# Altium footprint library SOT封装.PcbLib: 36 footprints (part 3 of 3)
Each footprint in its own frame and in the unit in brackets; x right, y up, seen from the top. Pads: shape width x height; smd on the part's side, far side on the other; paste and mask are expansions set on the pad; w line width, h text height; cw(c..) or ccw(c..) is an arc to the next point about the centre after c.
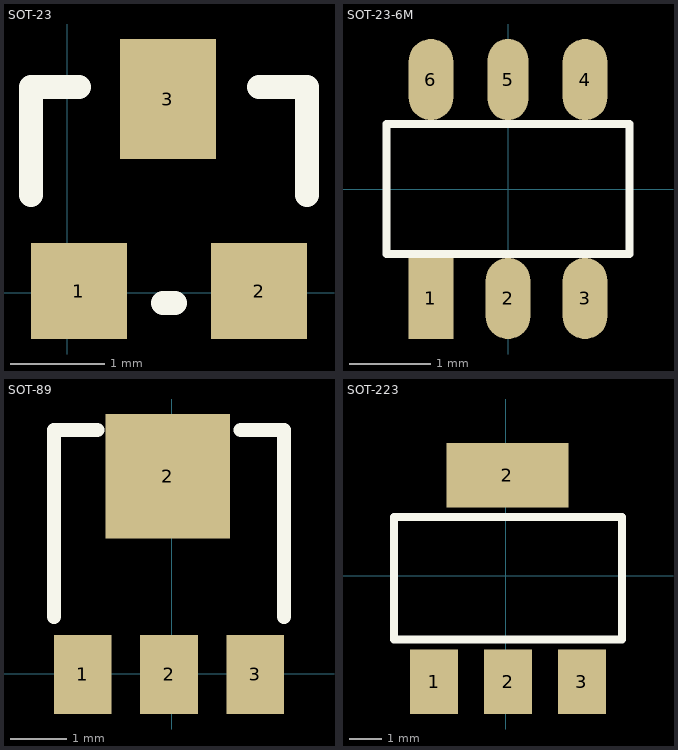
[diagram p2: the footprints below, top view; thin cyan lines are the x and y axes]

## SOT-23 [mil]
pads (3):
  rect 40x40 smd: 1(4.88,0.63) 2(79.88,0.63)
  rect 40x50 smd: 3(41.88,80.63)
Top Overlay:
  lines w10: -15.12,40.63 -15.12,85.63 4.88,85.63 ; 39.88,-4.37 44.88,-4.37 ; 79.88,85.63 99.88,85.63 99.88,40.63
3D body "SOT-23-3.STEP": height 47.24, standoff 0, extent -14.87,-11.02 99.3,99.22

## SOT-23-6M [mm]
pads (6):
  rect 0.55x1 smd: 1(-0.95,-1.35)
  oval 0.55x1 smd: 2(0,-1.35) 3(0.95,-1.35) 4(0.95,1.35) 6(-0.95,1.35)
  oval 0.5x1 smd: 5(0,1.35)
Top Overlay:
  lines w0.1: -1.5,-0.8 1.5,-0.8 1.5,0.8 -1.5,0.8 -1.5,-0.8
3D body "SOT-23-6-3.STEP": height 0.86, standoff 0, extent -1.5,-1.405 1.5,1.405

## SOT-89 [mil]
pads (4):
  rect 40x55 smd: 1(-61.82,-0.57) 2(-1.82,-0.57) 3(58.18,-0.57)
  rect 86.61x86.61 smd: 2(-2.76,137.22)
Top Overlay:
  lines w10: -81.82,39.43 -81.82,169.43 -51.82,169.43 ; 48.18,169.43 78.18,169.43 78.18,39.43
3D body "SOT-89.STEP": height 59.45, standoff 0, extent -90.07,-6.45 87.1,162.85

## SOT-223 [mil]
pads (4):
  rect 59x79 smd: 1(-88,-130) 2(2.55,-130) 3(93.1,-130)
  rect 150x79 smd: 2(1.88,123.54)
Top Overlay:
  lines w10: -137.45,-78 -137.45,72 142.55,72 142.55,-78 -137.45,-78
3D body "SOT-223_MP04A.STEP": height 66.93, standoff 0, extent -126.41,-138.72 129.5,135.3